# Altium integrated library TI Data Converters Analog to Digital Converter.IntLib: 2198 symbols (part 52 of 164)
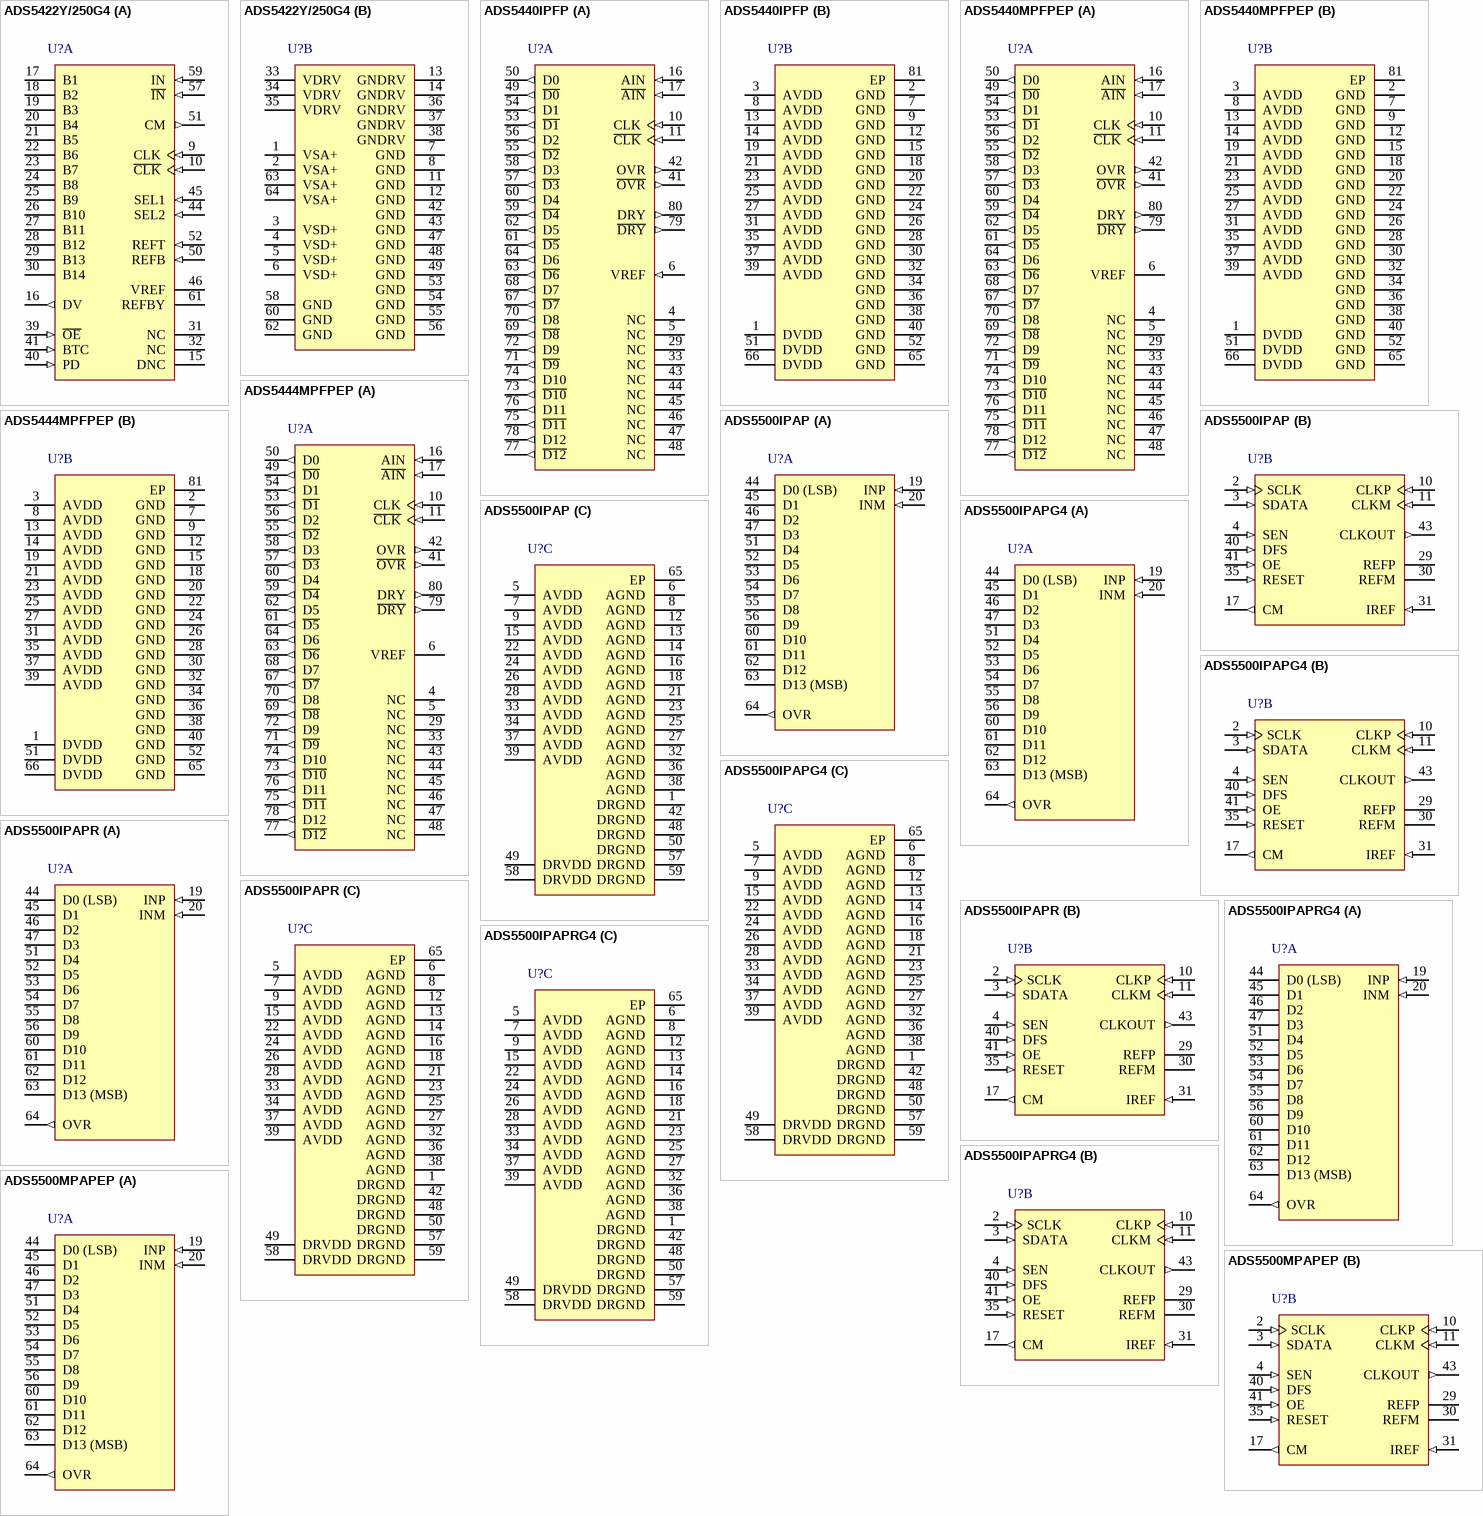
[diagram p177: symbols ADS5422Y/250G4 to ADS5500MPAPEP]

## ADS5440MPFPEP
designator U?
Enhanced Product 13-Bit 210 MSPS ADC, -55 to 125 degC, 80-pin QFP (PFP80), Green (RoHS & no Sb/Br); Manufacturer: Texas Instruments; PartNumber: ADS5440MPFPEP; # Input Channels: 1; Analog Voltage AV/DD(Max)(V): 5.25; Analog Voltage AV/DD(Min)(V): 4.75; Architecture: Pipeline; Digital Supply(Max)(V): 3.6; Digital Supply(Min)(V): 3; ENOB(Bits): 11.4; INL(Max)(+/-LSB): 2.2; Interface: Parallel LVDS; Resolution(Bits): 13; Sample Rate (max)(SPS): 210M; SFDR(dB): 76; SINAD(dB): 68; SNR(dB): 69; SubFamily: High Speed ADC (>10MSPS); DatasheetVersion: SGLS359; PackageVersion: 4146925/C, 07/2011; PackageReference: PFP80-6825X6825TP; PackageDescription: 80-Pin PowerPAD(TM) Plastic Quad Flatpack, Body 12 x 12 mm, Pitch 0.5 mm; Supplier 1: Digi-Key; Supplier Part Number 1: ADS5204IPFBRQ1-ND; Eco-Plan: Green (RoHS & no Sb/Br); Mounting Technology: Surface Mount; Code_JEDEC: MS-026; ComponentLink1Description: Manufacturer URL; ComponentLink1URL: http://www.ti.com/; ComponentLink2Description: Datasheet; ComponentLink2URL: http://www.ti.com/general/docs/lit/getliterature.tsp?genericPartNumber=ADS5440-EP&fileType=pdf; ComponentLink3Description: Package Specification; ComponentLink3URL: http://www.ti.com/litv/pdf/mpqf049b
footprint TI-PFP80-6825X6825TP_N (QFP, 80-Leads, Body 12x12mm, Pitch 0.5mm, Thermal Pad 7.5x7.5mm, IPC Medium Density)
footprint TI-PFP80-6825X6825TP_L (QFP, 80-Leads, Body 12x12mm, Pitch 0.5mm, Thermal Pad 7.5x7.5mm, IPC High Density)
footprint TI-PFP80-6825X6825TP_M (QFP, 80-Leads, Body 12x12mm, Pitch 0.5mm, Thermal Pad 7.5x7.5mm, IPC Low Density)
part A pins: 4 NC "No connect", 5 NC "No connect", 6 VREF "Reference voltage", 10 CLK (in) "Differential input clock (positive). Conversion initiated on rising edge", 11 ~{CLK} (in) "Differential input clock (negative)", 16 AIN (in) "Differential input signal (positive)", 17 ~{AIN} (in) "Differential input signal (negative)", 29 NC "No connect", 33 NC "No connect", 41 ~{OVR} (out) "Over range indicator LVDS output. A logic high signals an analog input in excess of the full-scale range", 42 OVR (out) "Over range indicator LVDS output. A logic high signals an analog input in excess of the full-scale range", 43 NC "No connect", 44 NC "No connect", 45 NC "No connect", 46 NC "No connect", 47 NC "No connect", 48 NC "No connect", 49 ~{D0} (out) "LVDS digital output pair, least-significant bit (LSB)", 50 D0 (out) "LVDS digital output pair, least-significant bit (LSB)", 53 ~{D1} (out) "LVDS digital output pairs", 54 D1 (out) "LVDS digital output pairs", 55 ~{D2} (out) "LVDS digital output pairs", 56 D2 (out) "LVDS digital output pairs", 57 ~{D3} (out) "LVDS digital output pairs", 58 D3 (out) "LVDS digital output pairs", 59 ~{D4} (out) "LVDS digital output pairs", 60 D4 (out) "LVDS digital output pairs", 61 ~{D5} (out) "LVDS digital output pairs", 62 D5 (out) "LVDS digital output pairs", 63 ~{D6} (out) "LVDS digital output pairs", 64 D6 (out) "LVDS digital output pairs", 67 ~{D7} (out) "LVDS digital output pairs", 68 D7 (out) "LVDS digital output pairs", 69 ~{D8} (out) "LVDS digital output pairs", 70 D8 (out) "LVDS digital output pairs", 71 ~{D9} (out) "LVDS digital output pairs", 72 D9 (out) "LVDS digital output pairs", 73 ~{D10} (out) "LVDS digital output pairs", 74 D10 (out) "LVDS digital output pairs", 75 ~{D11} (out) "LVDS digital output pairs", 76 D11 (out) "LVDS digital output pairs", 77 ~{D12} (out) "LVDS digital output pair, most-significant bit (MSB)", 78 D12 (out) "LVDS digital output pair, most-significant bit (MSB)", 79 ~{DRY} (out) "Data ready LVDS output pair", 80 DRY (out) "Data ready LVDS output pair"
part B pins: 1 DVDD (power) "Output driver power supply", 2 GND (power) "Ground", 3 AVDD (power) "Analog power supply", 7 GND (power) "Ground", 8 AVDD (power) "Analog power supply", 9 GND (power) "Ground", 12 GND (power) "Ground", 13 AVDD (power) "Analog power supply", 14 AVDD (power) "Analog power supply", 15 GND (power) "Ground", 18 GND (power) "Ground", 19 AVDD (power) "Analog power supply", 20 GND (power) "Ground", 21 AVDD (power) "Analog power supply", 22 GND (power) "Ground", 23 AVDD (power) "Analog power supply", 24 GND (power) "Ground", 25 AVDD (power) "Analog power supply", 26 GND (power) "Ground", 27 AVDD (power) "Analog power supply", 28 GND (power) "Ground", 30 GND (power) "Ground", 31 AVDD (power) "Analog power supply", 32 GND (power) "Ground", 34 GND (power) "Ground", 35 AVDD (power) "Analog power supply", 36 GND (power) "Ground", 37 AVDD (power) "Analog power supply", 38 GND (power) "Ground", 39 AVDD (power) "Analog power supply", 40 GND (power) "Ground", 51 DVDD (power) "Output driver power supply", 52 GND (power) "Ground", 65 GND (power) "Ground", 66 DVDD (power) "Output driver power supply", 81 EP (power)

## ADS5444MPFPEP
designator U?
Enhanced Product 13-Bit 250 MSPS ADC, -55 to 125 degC, 80-pin QFP (PFP80), Green (RoHS & no Sb/Br); Manufacturer: Texas Instruments; PartNumber: ADS5444MPFPEP; # Input Channels: 1; Analog Voltage AV/DD(Max)(V): 5.25; Analog Voltage AV/DD(Min)(V): 4.75; Architecture: Pipeline; Digital Supply(Max)(V): 3.6; Digital Supply(Min)(V): 3; ENOB(Bits): 11.2; INL(Max)(+/-LSB): 4.3; Interface: Parallel LVDS; Resolution(Bits): 13; Sample Rate (max)(SPS): 250M; SFDR(dB): 77; SINAD(dB): 68; SNR(dB): 69; SubFamily: High Speed ADC (>10MSPS); DatasheetVersion: SGLS360; PackageVersion: 4146925/C, 07/2011; PackageReference: PFP80-6825X6825TP; PackageDescription: 80-Pin PowerPAD(TM) Plastic Quad Flatpack, Body 12 x 12 mm, Pitch 0.5 mm; Supplier 1: Digi-Key; Supplier Part Number 1: ADS8405IBPFBR-ND; Eco-Plan: Green (RoHS & no Sb/Br); Mounting Technology: Surface Mount; Code_JEDEC: MS-026; ComponentLink1Description: Manufacturer URL; ComponentLink1URL: http://www.ti.com/; ComponentLink2Description: Datasheet; ComponentLink2URL: http://www.ti.com/general/docs/lit/getliterature.tsp?genericPartNumber=ADS5444-EP&fileType=pdf; ComponentLink3Description: Package Specification; ComponentLink3URL: http://www.ti.com/litv/pdf/mpqf049b
footprint TI-PFP80-6825X6825TP_N (QFP, 80-Leads, Body 12x12mm, Pitch 0.5mm, Thermal Pad 7.5x7.5mm, IPC Medium Density)
footprint TI-PFP80-6825X6825TP_L (QFP, 80-Leads, Body 12x12mm, Pitch 0.5mm, Thermal Pad 7.5x7.5mm, IPC High Density)
footprint TI-PFP80-6825X6825TP_M (QFP, 80-Leads, Body 12x12mm, Pitch 0.5mm, Thermal Pad 7.5x7.5mm, IPC Low Density)
part A pins: 4 NC "No connect", 5 NC "No connect", 6 VREF "Reference voltage", 10 CLK (in) "Differential input clock (positive). Conversion initiated on rising edge", 11 ~{CLK} (in) "Differential input clock (negative)", 16 AIN (in) "Differential input signal (positive)", 17 ~{AIN} (in) "Differential input signal (negative)", 29 NC "No connect", 33 NC "No connect", 41 ~{OVR} (out) "Over range indicator LVDS output. A logic high signals an analog input in excess of the full-scale range", 42 OVR (out) "Over range indicator LVDS output. A logic high signals an analog input in excess of the full-scale range", 43 NC "No connect", 44 NC "No connect", 45 NC "No connect", 46 NC "No connect", 47 NC "No connect", 48 NC "No connect", 49 ~{D0} (out) "LVDS digital output pair, least-significant bit (LSB)", 50 D0 (out) "LVDS digital output pair, least-significant bit (LSB)", 53 ~{D1} (out) "LVDS digital output pairs", 54 D1 (out) "LVDS digital output pairs", 55 ~{D2} (out) "LVDS digital output pairs", 56 D2 (out) "LVDS digital output pairs", 57 ~{D3} (out) "LVDS digital output pairs", 58 D3 (out) "LVDS digital output pairs", 59 ~{D4} (out) "LVDS digital output pairs", 60 D4 (out) "LVDS digital output pairs", 61 ~{D5} (out) "LVDS digital output pairs", 62 D5 (out) "LVDS digital output pairs", 63 ~{D6} (out) "LVDS digital output pairs", 64 D6 (out) "LVDS digital output pairs", 67 ~{D7} (out) "LVDS digital output pairs", 68 D7 (out) "LVDS digital output pairs", 69 ~{D8} (out) "LVDS digital output pairs", 70 D8 (out) "LVDS digital output pairs", 71 ~{D9} (out) "LVDS digital output pairs", 72 D9 (out) "LVDS digital output pairs", 73 ~{D10} (out) "LVDS digital output pairs", 74 D10 (out) "LVDS digital output pairs", 75 ~{D11} (out) "LVDS digital output pairs", 76 D11 (out) "LVDS digital output pairs", 77 ~{D12} (out) "LVDS digital output pair, most-significant bit (MSB)", 78 D12 (out) "LVDS digital output pair, most-significant bit (MSB)", 79 ~{DRY} (out) "Data ready LVDS output pair", 80 DRY (out) "Data ready LVDS output pair"
part B pins: 1 DVDD (power) "Output driver power supply", 2 GND (power) "Ground", 3 AVDD (power) "Analog power supply", 7 GND (power) "Ground", 8 AVDD (power) "Analog power supply", 9 GND (power) "Ground", 12 GND (power) "Ground", 13 AVDD (power) "Analog power supply", 14 AVDD (power) "Analog power supply", 15 GND (power) "Ground", 18 GND (power) "Ground", 19 AVDD (power) "Analog power supply", 20 GND (power) "Ground", 21 AVDD (power) "Analog power supply", 22 GND (power) "Ground", 23 AVDD (power) "Analog power supply", 24 GND (power) "Ground", 25 AVDD (power) "Analog power supply", 26 GND (power) "Ground", 27 AVDD (power) "Analog power supply", 28 GND (power) "Ground", 30 GND (power) "Ground", 31 AVDD (power) "Analog power supply", 32 GND (power) "Ground", 34 GND (power) "Ground", 35 AVDD (power) "Analog power supply", 36 GND (power) "Ground", 37 AVDD (power) "Analog power supply", 38 GND (power) "Ground", 39 AVDD (power) "Analog power supply", 40 GND (power) "Ground", 51 DVDD (power) "Output driver power supply", 52 GND (power) "Ground", 65 GND (power) "Ground", 66 DVDD (power) "Output driver power supply", 81 EP (power)

## ADS5500IPAP
designator U?
14-Bit, 125 MSPS ADC Single Channel Low Power and Superior AC Performance, -40 to 85 degC, 64-pin QFP (PAP64), Green (RoHS & no Sb/Br); Manufacturer: Texas Instruments; PartNumber: ADS5500IPAP; # Input Channels: 1; Analog Voltage AV/DD(Max)(V): 3.6; Analog Voltage AV/DD(Min)(V): 3; Architecture: Pipeline; ENOB(Bits): 11.3; INL(Max)(+/-LSB): 5; Interface: Parallel CMOS,Serial SPI Interface; Resolution(Bits): 14; Sample Rate (max)(SPS): 125M; SFDR(dB): 84; SINAD(dB): 72.8; SNR(dB): 73.2; SubFamily: High Speed ADC (>10MSPS); DatasheetVersion: SBAS303F; PackageVersion: 4147702/C, 08/2003; PackageReference: PAP64-3825X3825TP; PackageDescription: 64-Pin PowerPAD(TM) Plastic Quad Flatpack, Body 10 x 10 mm, Pitch 0.5 mm; Supplier 1: Digi-Key; Supplier Part Number 1: ADS8405IBPFBRG4-ND; Digital Supply(Max)(V): 3.6; Digital Supply(Min)(V): 3; Eco-Plan: Green (RoHS & no Sb/Br); Mounting Technology: Surface Mount; Code_JEDEC: MS-026; ComponentLink1Description: Manufacturer URL; ComponentLink1URL: http://www.ti.com/; ComponentLink2Description: Datasheet; ComponentLink2URL: http://www.ti.com/general/docs/lit/getliterature.tsp?genericPartNumber=ADS5500&fileType=pdf; ComponentLink3Description: Package Specification; ComponentLink3URL: http://www.ti.com/lit/ml/mpqf071b/mpqf071b.pdf
footprint TI-PAP64-3825X3825TP_N (QFP, 64-Leads, Body 10x10mm, Pitch 0.5mm, Thermal Pad 4.15x4.15 mm, IPC Medium Density)
footprint TI-PAP64-3825X3825TP_L (QFP, 64-Leads, Body 10x10mm, Pitch 0.5mm, Thermal Pad 4.15x4.15mm, IPC High Density)
footprint TI-PAP64-3825X3825TP_M (QFP, 64-Leads, Body 10x10mm, Pitch 0.5mm, Thermal Pad 4.15x4.15mm, IPC Low Density)
part A pins: 19 INP (in) "Differential analog input (positive)", 20 INM (in) "Differential analog input (negative)", 44 D0 (LSB) (hiz) "Parallel data output", 45 D1 (hiz) "Parallel data output", 46 D2 (hiz) "Parallel data output", 47 D3 (hiz) "Parallel data output", 51 D4 (hiz) "Parallel data output", 52 D5 (hiz) "Parallel data output", 53 D6 (hiz) "Parallel data output", 54 D7 (hiz) "Parallel data output", 55 D8 (hiz) "Parallel data output", 56 D9 (hiz) "Parallel data output", 60 D10 (hiz) "Parallel data output", 61 D11 (hiz) "Parallel data output", 62 D12 (hiz) "Parallel data output", 63 D13 (MSB) (hiz) "Parallel data output", 64 OVR (out) "Over-range indicator bit"
part B pins: 2 SCLK (in) "Serial interface clock", 3 SDATA (in) "Serial interface data", 4 SEN (in) "Serial interface chip select", 10 CLKP (in) "Data converter differential input clock (positive)", 11 CLKM (in) "Data converter differential input clock (negative)", 17 CM (out) "Common-mode output voltage", 29 REFP "Reference voltage (positive); 1-uF capacitor in series with a 1-ohm resistor to GND", 30 REFM "Reference voltage (negative); 1-uF capacitor in series with a 1-ohm resistor to GND", 31 IREF (in) "Current set; 56-kohm resistor to GND; do not connect capacitors", 35 RESET (in) "Reset (active high), 200-kohm resistor to AVDD", 40 DFS (in) "Data format and clock out polarity select", 41 OE (in) "Output enable (active high)", 43 CLKOUT (out) "CMOS clock out in sync with data"
part C pins: 1 DRGND (power) "Output driver ground", 5 AVDD (power) "Analog power supply", 6 AGND (power) "Analog ground", 7 AVDD (power) "Analog power supply", 8 AGND (power) "Analog ground", 9 AVDD (power) "Analog power supply", 12 AGND (power) "Analog ground", 13 AGND (power) "Analog ground", 14 AGND (power) "Analog ground", 15 AVDD (power) "Analog power supply", 16 AGND (power) "Analog ground", 18 AGND (power) "Analog ground", 21 AGND (power) "Analog ground", 22 AVDD (power) "Analog power supply", 23 AGND (power) "Analog ground", 24 AVDD (power) "Analog power supply", 25 AGND (power) "Analog ground", 26 AVDD (power) "Analog power supply", 27 AGND (power) "Analog ground", 28 AVDD (power) "Analog power supply", 32 AGND (power) "Analog ground", 33 AVDD (power) "Analog power supply", 34 AVDD (power) "Analog power supply", 36 AGND (power) "Analog ground", 37 AVDD (power) "Analog power supply", 38 AGND (power) "Analog ground", 39 AVDD (power) "Analog power supply", 42 DRGND (power) "Output driver ground", 48 DRGND (power) "Output driver ground", 49 DRVDD (power) "Output driver power supply", 50 DRGND (power) "Output driver ground", 57 DRGND (power) "Output driver ground", 58 DRVDD (power) "Output driver power supply", 59 DRGND (power) "Output driver ground", 65 EP (power) "Connected to Analog Ground"

## ADS5500IPAPG4
designator U?
14-Bit, 125 MSPS ADC Single Channel Low Power and Superior AC Performance, -40 to 85 degC, 64-pin QFP (PAP64), Green (RoHS & no Sb/Br); Manufacturer: Texas Instruments; PartNumber: ADS5500IPAPG4; # Input Channels: 1; Analog Voltage AV/DD(Max)(V): 3.6; Analog Voltage AV/DD(Min)(V): 3; Architecture: Pipeline; ENOB(Bits): 11.3; INL(Max)(+/-LSB): 5; Interface: Parallel CMOS,Serial SPI Interface; Resolution(Bits): 14; Sample Rate (max)(SPS): 125M; SFDR(dB): 84; SINAD(dB): 72.8; SNR(dB): 73.2; SubFamily: High Speed ADC (>10MSPS); DatasheetVersion: SBAS303F; PackageVersion: 4147702/C, 08/2003; PackageReference: PAP64-3825X3825TP; PackageDescription: 64-Pin PowerPAD(TM) Plastic Quad Flatpack, Body 10 x 10 mm, Pitch 0.5 mm; Supplier 1: Digi-Key; Supplier Part Number 1: 296-17636-2-ND; Digital Supply(Max)(V): 3.6; Digital Supply(Min)(V): 3; Eco-Plan: Green (RoHS & no Sb/Br); Mounting Technology: Surface Mount; Code_JEDEC: MS-026; ComponentLink1Description: Manufacturer URL; ComponentLink1URL: http://www.ti.com/; ComponentLink2Description: Datasheet; ComponentLink2URL: http://www.ti.com/general/docs/lit/getliterature.tsp?genericPartNumber=ADS5500&fileType=pdf; ComponentLink3Description: Package Specification; ComponentLink3URL: http://www.ti.com/lit/ml/mpqf071b/mpqf071b.pdf
footprint TI-PAP64-3825X3825TP_N (QFP, 64-Leads, Body 10x10mm, Pitch 0.5mm, Thermal Pad 4.15x4.15 mm, IPC Medium Density)
footprint TI-PAP64-3825X3825TP_L (QFP, 64-Leads, Body 10x10mm, Pitch 0.5mm, Thermal Pad 4.15x4.15mm, IPC High Density)
footprint TI-PAP64-3825X3825TP_M (QFP, 64-Leads, Body 10x10mm, Pitch 0.5mm, Thermal Pad 4.15x4.15mm, IPC Low Density)
part A pins: 19 INP (in) "Differential analog input (positive)", 20 INM (in) "Differential analog input (negative)", 44 D0 (LSB) (hiz) "Parallel data output", 45 D1 (hiz) "Parallel data output", 46 D2 (hiz) "Parallel data output", 47 D3 (hiz) "Parallel data output", 51 D4 (hiz) "Parallel data output", 52 D5 (hiz) "Parallel data output", 53 D6 (hiz) "Parallel data output", 54 D7 (hiz) "Parallel data output", 55 D8 (hiz) "Parallel data output", 56 D9 (hiz) "Parallel data output", 60 D10 (hiz) "Parallel data output", 61 D11 (hiz) "Parallel data output", 62 D12 (hiz) "Parallel data output", 63 D13 (MSB) (hiz) "Parallel data output", 64 OVR (out) "Over-range indicator bit"
part B pins: 2 SCLK (in) "Serial interface clock", 3 SDATA (in) "Serial interface data", 4 SEN (in) "Serial interface chip select", 10 CLKP (in) "Data converter differential input clock (positive)", 11 CLKM (in) "Data converter differential input clock (negative)", 17 CM (out) "Common-mode output voltage", 29 REFP "Reference voltage (positive); 1-uF capacitor in series with a 1-ohm resistor to GND", 30 REFM "Reference voltage (negative); 1-uF capacitor in series with a 1-ohm resistor to GND", 31 IREF (in) "Current set; 56-kohm resistor to GND; do not connect capacitors", 35 RESET (in) "Reset (active high), 200-kohm resistor to AVDD", 40 DFS (in) "Data format and clock out polarity select", 41 OE (in) "Output enable (active high)", 43 CLKOUT (out) "CMOS clock out in sync with data"
part C pins: 1 DRGND (power) "Output driver ground", 5 AVDD (power) "Analog power supply", 6 AGND (power) "Analog ground", 7 AVDD (power) "Analog power supply", 8 AGND (power) "Analog ground", 9 AVDD (power) "Analog power supply", 12 AGND (power) "Analog ground", 13 AGND (power) "Analog ground", 14 AGND (power) "Analog ground", 15 AVDD (power) "Analog power supply", 16 AGND (power) "Analog ground", 18 AGND (power) "Analog ground", 21 AGND (power) "Analog ground", 22 AVDD (power) "Analog power supply", 23 AGND (power) "Analog ground", 24 AVDD (power) "Analog power supply", 25 AGND (power) "Analog ground", 26 AVDD (power) "Analog power supply", 27 AGND (power) "Analog ground", 28 AVDD (power) "Analog power supply", 32 AGND (power) "Analog ground", 33 AVDD (power) "Analog power supply", 34 AVDD (power) "Analog power supply", 36 AGND (power) "Analog ground", 37 AVDD (power) "Analog power supply", 38 AGND (power) "Analog ground", 39 AVDD (power) "Analog power supply", 42 DRGND (power) "Output driver ground", 48 DRGND (power) "Output driver ground", 49 DRVDD (power) "Output driver power supply", 50 DRGND (power) "Output driver ground", 57 DRGND (power) "Output driver ground", 58 DRVDD (power) "Output driver power supply", 59 DRGND (power) "Output driver ground", 65 EP (power) "Connected to Analog Ground"

## ADS5500IPAPR
designator U?
14-Bit, 125 MSPS ADC Single Channel Low Power and Superior AC Performance, -40 to 85 degC, 64-pin QFP (PAP64), Green (RoHS & no Sb/Br); Manufacturer: Texas Instruments; PartNumber: ADS5500IPAPR; # Input Channels: 1; Analog Voltage AV/DD(Max)(V): 3.6; Analog Voltage AV/DD(Min)(V): 3; Architecture: Pipeline; ENOB(Bits): 11.3; INL(Max)(+/-LSB): 5; Interface: Parallel CMOS,Serial SPI Interface; Resolution(Bits): 14; Sample Rate (max)(SPS): 125M; SFDR(dB): 84; SINAD(dB): 72.8; SNR(dB): 73.2; SubFamily: High Speed ADC (>10MSPS); DatasheetVersion: SBAS303F; PackageVersion: 4147702/C, 08/2003; PackageReference: PAP64-3825X3825TP; PackageDescription: 64-Pin PowerPAD(TM) Plastic Quad Flatpack, Body 10 x 10 mm, Pitch 0.5 mm; Supplier 1: Digi-Key; Supplier Part Number 1: ADS8405IBPFBTG4-ND; Digital Supply(Max)(V): 3.6; Digital Supply(Min)(V): 3; Eco-Plan: Green (RoHS & no Sb/Br); Mounting Technology: Surface Mount; Code_JEDEC: MS-026; ComponentLink1Description: Manufacturer URL; ComponentLink1URL: http://www.ti.com/; ComponentLink2Description: Datasheet; ComponentLink2URL: http://www.ti.com/general/docs/lit/getliterature.tsp?genericPartNumber=ADS5500&fileType=pdf; ComponentLink3Description: Package Specification; ComponentLink3URL: http://www.ti.com/lit/ml/mpqf071b/mpqf071b.pdf
footprint TI-PAP64-3825X3825TP_N (QFP, 64-Leads, Body 10x10mm, Pitch 0.5mm, Thermal Pad 4.15x4.15 mm, IPC Medium Density)
footprint TI-PAP64-3825X3825TP_L (QFP, 64-Leads, Body 10x10mm, Pitch 0.5mm, Thermal Pad 4.15x4.15mm, IPC High Density)
footprint TI-PAP64-3825X3825TP_M (QFP, 64-Leads, Body 10x10mm, Pitch 0.5mm, Thermal Pad 4.15x4.15mm, IPC Low Density)
part A pins: 19 INP (in) "Differential analog input (positive)", 20 INM (in) "Differential analog input (negative)", 44 D0 (LSB) (hiz) "Parallel data output", 45 D1 (hiz) "Parallel data output", 46 D2 (hiz) "Parallel data output", 47 D3 (hiz) "Parallel data output", 51 D4 (hiz) "Parallel data output", 52 D5 (hiz) "Parallel data output", 53 D6 (hiz) "Parallel data output", 54 D7 (hiz) "Parallel data output", 55 D8 (hiz) "Parallel data output", 56 D9 (hiz) "Parallel data output", 60 D10 (hiz) "Parallel data output", 61 D11 (hiz) "Parallel data output", 62 D12 (hiz) "Parallel data output", 63 D13 (MSB) (hiz) "Parallel data output", 64 OVR (out) "Over-range indicator bit"
part B pins: 2 SCLK (in) "Serial interface clock", 3 SDATA (in) "Serial interface data", 4 SEN (in) "Serial interface chip select", 10 CLKP (in) "Data converter differential input clock (positive)", 11 CLKM (in) "Data converter differential input clock (negative)", 17 CM (out) "Common-mode output voltage", 29 REFP "Reference voltage (positive); 1-uF capacitor in series with a 1-ohm resistor to GND", 30 REFM "Reference voltage (negative); 1-uF capacitor in series with a 1-ohm resistor to GND", 31 IREF (in) "Current set; 56-kohm resistor to GND; do not connect capacitors", 35 RESET (in) "Reset (active high), 200-kohm resistor to AVDD", 40 DFS (in) "Data format and clock out polarity select", 41 OE (in) "Output enable (active high)", 43 CLKOUT (out) "CMOS clock out in sync with data"
part C pins: 1 DRGND (power) "Output driver ground", 5 AVDD (power) "Analog power supply", 6 AGND (power) "Analog ground", 7 AVDD (power) "Analog power supply", 8 AGND (power) "Analog ground", 9 AVDD (power) "Analog power supply", 12 AGND (power) "Analog ground", 13 AGND (power) "Analog ground", 14 AGND (power) "Analog ground", 15 AVDD (power) "Analog power supply", 16 AGND (power) "Analog ground", 18 AGND (power) "Analog ground", 21 AGND (power) "Analog ground", 22 AVDD (power) "Analog power supply", 23 AGND (power) "Analog ground", 24 AVDD (power) "Analog power supply", 25 AGND (power) "Analog ground", 26 AVDD (power) "Analog power supply", 27 AGND (power) "Analog ground", 28 AVDD (power) "Analog power supply", 32 AGND (power) "Analog ground", 33 AVDD (power) "Analog power supply", 34 AVDD (power) "Analog power supply", 36 AGND (power) "Analog ground", 37 AVDD (power) "Analog power supply", 38 AGND (power) "Analog ground", 39 AVDD (power) "Analog power supply", 42 DRGND (power) "Output driver ground", 48 DRGND (power) "Output driver ground", 49 DRVDD (power) "Output driver power supply", 50 DRGND (power) "Output driver ground", 57 DRGND (power) "Output driver ground", 58 DRVDD (power) "Output driver power supply", 59 DRGND (power) "Output driver ground", 65 EP (power) "Connected to Analog Ground"

## ADS5500IPAPRG4
designator U?
14-Bit, 125 MSPS ADC Single Channel Low Power and Superior AC Performance, -40 to 85 degC, 64-pin QFP (PAP64), Green (RoHS & no Sb/Br); Manufacturer: Texas Instruments; PartNumber: ADS5500IPAPRG4; # Input Channels: 1; Analog Voltage AV/DD(Max)(V): 3.6; Analog Voltage AV/DD(Min)(V): 3; Architecture: Pipeline; ENOB(Bits): 11.3; INL(Max)(+/-LSB): 5; Interface: Parallel CMOS,Serial SPI Interface; Resolution(Bits): 14; Sample Rate (max)(SPS): 125M; SFDR(dB): 84; SINAD(dB): 72.8; SNR(dB): 73.2; SubFamily: High Speed ADC (>10MSPS); DatasheetVersion: SBAS303F; PackageVersion: 4147702/C, 08/2003; PackageReference: PAP64-3825X3825TP; PackageDescription: 64-Pin PowerPAD(TM) Plastic Quad Flatpack, Body 10 x 10 mm, Pitch 0.5 mm; Supplier 1: Digi-Key; Supplier Part Number 1: ADS8405IPFBR-ND; Digital Supply(Max)(V): 3.6; Digital Supply(Min)(V): 3; Eco-Plan: Green (RoHS & no Sb/Br); Mounting Technology: Surface Mount; Code_JEDEC: MS-026; ComponentLink1Description: Manufacturer URL; ComponentLink1URL: http://www.ti.com/; ComponentLink2Description: Datasheet; ComponentLink2URL: http://www.ti.com/general/docs/lit/getliterature.tsp?genericPartNumber=ADS5500&fileType=pdf; ComponentLink3Description: Package Specification; ComponentLink3URL: http://www.ti.com/lit/ml/mpqf071b/mpqf071b.pdf
footprint TI-PAP64-3825X3825TP_N (QFP, 64-Leads, Body 10x10mm, Pitch 0.5mm, Thermal Pad 4.15x4.15 mm, IPC Medium Density)
footprint TI-PAP64-3825X3825TP_L (QFP, 64-Leads, Body 10x10mm, Pitch 0.5mm, Thermal Pad 4.15x4.15mm, IPC High Density)
footprint TI-PAP64-3825X3825TP_M (QFP, 64-Leads, Body 10x10mm, Pitch 0.5mm, Thermal Pad 4.15x4.15mm, IPC Low Density)
part A pins: 19 INP (in) "Differential analog input (positive)", 20 INM (in) "Differential analog input (negative)", 44 D0 (LSB) (hiz) "Parallel data output", 45 D1 (hiz) "Parallel data output", 46 D2 (hiz) "Parallel data output", 47 D3 (hiz) "Parallel data output", 51 D4 (hiz) "Parallel data output", 52 D5 (hiz) "Parallel data output", 53 D6 (hiz) "Parallel data output", 54 D7 (hiz) "Parallel data output", 55 D8 (hiz) "Parallel data output", 56 D9 (hiz) "Parallel data output", 60 D10 (hiz) "Parallel data output", 61 D11 (hiz) "Parallel data output", 62 D12 (hiz) "Parallel data output", 63 D13 (MSB) (hiz) "Parallel data output", 64 OVR (out) "Over-range indicator bit"
part B pins: 2 SCLK (in) "Serial interface clock", 3 SDATA (in) "Serial interface data", 4 SEN (in) "Serial interface chip select", 10 CLKP (in) "Data converter differential input clock (positive)", 11 CLKM (in) "Data converter differential input clock (negative)", 17 CM (out) "Common-mode output voltage", 29 REFP "Reference voltage (positive); 1-uF capacitor in series with a 1-ohm resistor to GND", 30 REFM "Reference voltage (negative); 1-uF capacitor in series with a 1-ohm resistor to GND", 31 IREF (in) "Current set; 56-kohm resistor to GND; do not connect capacitors", 35 RESET (in) "Reset (active high), 200-kohm resistor to AVDD", 40 DFS (in) "Data format and clock out polarity select", 41 OE (in) "Output enable (active high)", 43 CLKOUT (out) "CMOS clock out in sync with data"
part C pins: 1 DRGND (power) "Output driver ground", 5 AVDD (power) "Analog power supply", 6 AGND (power) "Analog ground", 7 AVDD (power) "Analog power supply", 8 AGND (power) "Analog ground", 9 AVDD (power) "Analog power supply", 12 AGND (power) "Analog ground", 13 AGND (power) "Analog ground", 14 AGND (power) "Analog ground", 15 AVDD (power) "Analog power supply", 16 AGND (power) "Analog ground", 18 AGND (power) "Analog ground", 21 AGND (power) "Analog ground", 22 AVDD (power) "Analog power supply", 23 AGND (power) "Analog ground", 24 AVDD (power) "Analog power supply", 25 AGND (power) "Analog ground", 26 AVDD (power) "Analog power supply", 27 AGND (power) "Analog ground", 28 AVDD (power) "Analog power supply", 32 AGND (power) "Analog ground", 33 AVDD (power) "Analog power supply", 34 AVDD (power) "Analog power supply", 36 AGND (power) "Analog ground", 37 AVDD (power) "Analog power supply", 38 AGND (power) "Analog ground", 39 AVDD (power) "Analog power supply", 42 DRGND (power) "Output driver ground", 48 DRGND (power) "Output driver ground", 49 DRVDD (power) "Output driver power supply", 50 DRGND (power) "Output driver ground", 57 DRGND (power) "Output driver ground", 58 DRVDD (power) "Output driver power supply", 59 DRGND (power) "Output driver ground", 65 EP (power) "Connected to Analog Ground"

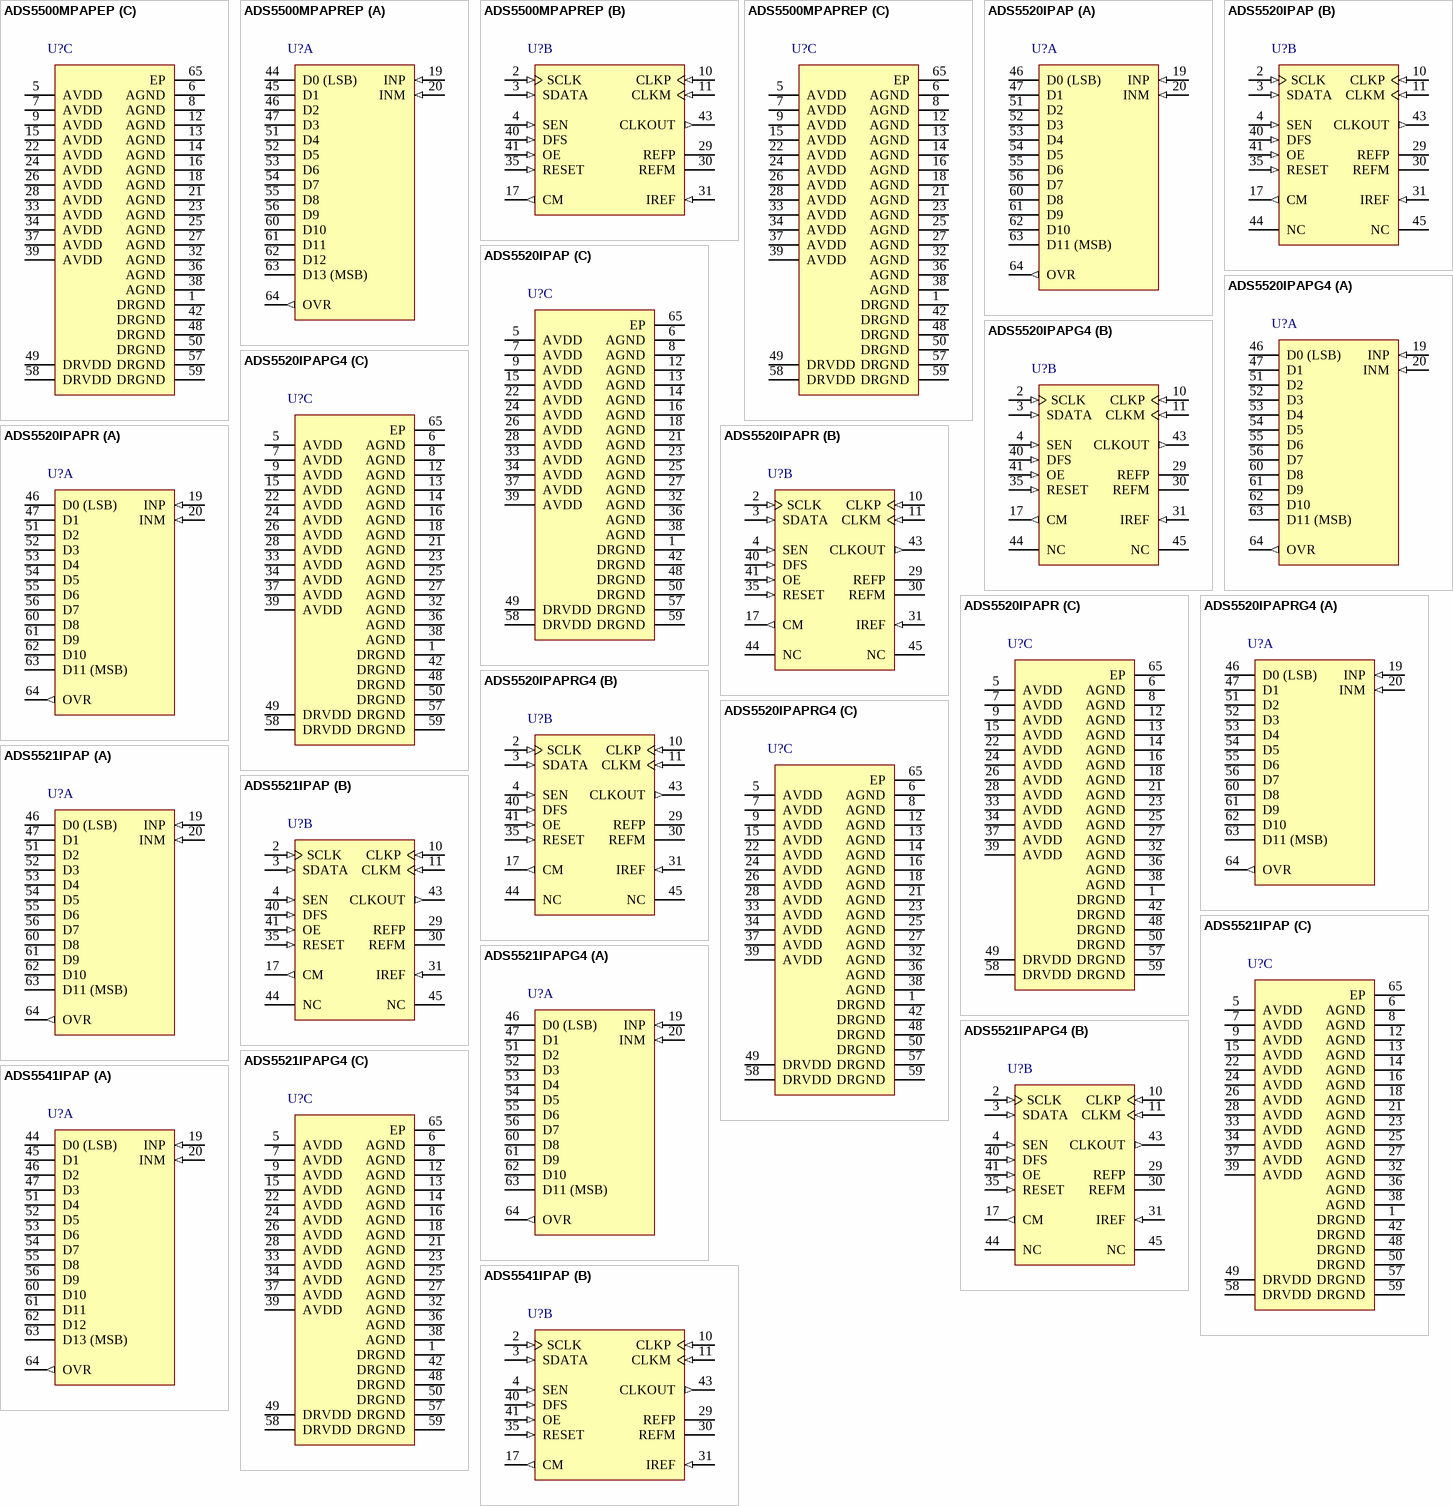
[diagram p52: symbols ADS5500MPAPEP to ADS5541IPAP]

## ADS5500MPAPEP
designator U?
Enhanced Product 14-Bit 125 MSPS ADC, -55 to 125 degC, 64-pin QFP (PAP64), Green (RoHS & no Sb/Br); Manufacturer: Texas Instruments; PartNumber: ADS5500MPAPEP; # Input Channels: 1; Analog Voltage AV/DD(Max)(V): 3.6; Analog Voltage AV/DD(Min)(V): 3; Architecture: Pipeline; ENOB(Bits): 11.3; INL(Max)(+/-LSB): 8; Interface: Parallel CMOS,Serial SPI Interface; Resolution(Bits): 14; Sample Rate (max)(SPS): 125M; SFDR(dB): 84; SINAD(dB): 70; SNR(dB): 71.5; SubFamily: High Speed ADC (>10MSPS); DatasheetVersion: SGLS286C; PackageVersion: 4147702/C, 08/2003; PackageReference: PAP64-3825X3825TP; PackageDescription: 64-Pin PowerPAD(TM) Plastic Quad Flatpack, Body 10 x 10 mm, Pitch 0.5 mm; Supplier 1: Digi-Key; Supplier Part Number 1: ADS8405IPFBRG4-ND; Digital Supply(Max)(V): 3.6; Digital Supply(Min)(V): 3; Eco-Plan: Green (RoHS & no Sb/Br); Mounting Technology: Surface Mount; Code_JEDEC: MS-026; ComponentLink1Description: Manufacturer URL; ComponentLink1URL: http://www.ti.com/; ComponentLink2Description: Datasheet; ComponentLink2URL: http://www.ti.com/general/docs/lit/getliterature.tsp?genericPartNumber=ADS5500-EP&fileType=pdf; ComponentLink3Description: Package Specification; ComponentLink3URL: http://www.ti.com/lit/ml/mpqf071b/mpqf071b.pdf
footprint TI-PAP64-3825X3825TP_N (QFP, 64-Leads, Body 10x10mm, Pitch 0.5mm, Thermal Pad 4.15x4.15 mm, IPC Medium Density)
footprint TI-PAP64-3825X3825TP_L (QFP, 64-Leads, Body 10x10mm, Pitch 0.5mm, Thermal Pad 4.15x4.15mm, IPC High Density)
footprint TI-PAP64-3825X3825TP_M (QFP, 64-Leads, Body 10x10mm, Pitch 0.5mm, Thermal Pad 4.15x4.15mm, IPC Low Density)
part A pins: 19 INP (in) "Differential analog input (positive)", 20 INM (in) "Differential analog input (negative)", 44 D0 (LSB) (hiz) "Parallel data output", 45 D1 (hiz) "Parallel data output", 46 D2 (hiz) "Parallel data output", 47 D3 (hiz) "Parallel data output", 51 D4 (hiz) "Parallel data output", 52 D5 (hiz) "Parallel data output", 53 D6 (hiz) "Parallel data output", 54 D7 (hiz) "Parallel data output", 55 D8 (hiz) "Parallel data output", 56 D9 (hiz) "Parallel data output", 60 D10 (hiz) "Parallel data output", 61 D11 (hiz) "Parallel data output", 62 D12 (hiz) "Parallel data output", 63 D13 (MSB) (hiz) "Parallel data output", 64 OVR (out) "Over-range indicator bit"
part B pins: 2 SCLK (in) "Serial interface clock", 3 SDATA (in) "Serial interface data", 4 SEN (in) "Serial interface chip select", 10 CLKP (in) "Data converter differential input clock (positive)", 11 CLKM (in) "Data converter differential input clock (negative)", 17 CM (out) "Common-mode output voltage", 29 REFP "Reference voltage (positive); 1-uF capacitor in series with a 1-ohm resistor to GND", 30 REFM "Reference voltage (negative); 1-uF capacitor in series with a 1-ohm resistor to GND", 31 IREF (in) "Current set; 56-kohm resistor to GND; do not connect capacitors", 35 RESET (in) "Reset (active high), 200-kohm resistor to AVDD", 40 DFS (in) "Data format and clock out polarity select", 41 OE (in) "Output enable (active high)", 43 CLKOUT (out) "CMOS clock out in sync with data"
part C pins: 1 DRGND (power) "Output driver ground", 5 AVDD (power) "Analog power supply", 6 AGND (power) "Analog ground", 7 AVDD (power) "Analog power supply", 8 AGND (power) "Analog ground", 9 AVDD (power) "Analog power supply", 12 AGND (power) "Analog ground", 13 AGND (power) "Analog ground", 14 AGND (power) "Analog ground", 15 AVDD (power) "Analog power supply", 16 AGND (power) "Analog ground", 18 AGND (power) "Analog ground", 21 AGND (power) "Analog ground", 22 AVDD (power) "Analog power supply", 23 AGND (power) "Analog ground", 24 AVDD (power) "Analog power supply", 25 AGND (power) "Analog ground", 26 AVDD (power) "Analog power supply", 27 AGND (power) "Analog ground", 28 AVDD (power) "Analog power supply", 32 AGND (power) "Analog ground", 33 AVDD (power) "Analog power supply", 34 AVDD (power) "Analog power supply", 36 AGND (power) "Analog ground", 37 AVDD (power) "Analog power supply", 38 AGND (power) "Analog ground", 39 AVDD (power) "Analog power supply", 42 DRGND (power) "Output driver ground", 48 DRGND (power) "Output driver ground", 49 DRVDD (power) "Output driver power supply", 50 DRGND (power) "Output driver ground", 57 DRGND (power) "Output driver ground", 58 DRVDD (power) "Output driver power supply", 59 DRGND (power) "Output driver ground", 65 EP (power) "Connected to Analog Ground"

## ADS5500MPAPREP
designator U?
Enhanced Product 14-Bit 125 MSPS ADC, -55 to 125 degC, 64-pin QFP (PAP64), Green (RoHS & no Sb/Br); Manufacturer: Texas Instruments; PartNumber: ADS5500MPAPREP; # Input Channels: 1; Analog Voltage AV/DD(Max)(V): 3.6; Analog Voltage AV/DD(Min)(V): 3; Architecture: Pipeline; ENOB(Bits): 11.3; INL(Max)(+/-LSB): 8; Interface: Parallel CMOS,Serial SPI Interface; Resolution(Bits): 14; Sample Rate (max)(SPS): 125M; SFDR(dB): 84; SINAD(dB): 70; SNR(dB): 71.5; SubFamily: High Speed ADC (>10MSPS); DatasheetVersion: SGLS286C; PackageVersion: 4147702/C, 08/2003; PackageReference: PAP64-3825X3825TP; PackageDescription: 64-Pin PowerPAD(TM) Plastic Quad Flatpack, Body 10 x 10 mm, Pitch 0.5 mm; Supplier 1: Digi-Key; Supplier Part Number 1: 296-17637-2-ND; Digital Supply(Max)(V): 3.6; Digital Supply(Min)(V): 3; Eco-Plan: Green (RoHS & no Sb/Br); Mounting Technology: Surface Mount; Code_JEDEC: MS-026; ComponentLink1Description: Manufacturer URL; ComponentLink1URL: http://www.ti.com/; ComponentLink2Description: Datasheet; ComponentLink2URL: http://www.ti.com/general/docs/lit/getliterature.tsp?genericPartNumber=ADS5500-EP&fileType=pdf; ComponentLink3Description: Package Specification; ComponentLink3URL: http://www.ti.com/lit/ml/mpqf071b/mpqf071b.pdf
footprint TI-PAP64-3825X3825TP_N (QFP, 64-Leads, Body 10x10mm, Pitch 0.5mm, Thermal Pad 4.15x4.15 mm, IPC Medium Density)
footprint TI-PAP64-3825X3825TP_L (QFP, 64-Leads, Body 10x10mm, Pitch 0.5mm, Thermal Pad 4.15x4.15mm, IPC High Density)
footprint TI-PAP64-3825X3825TP_M (QFP, 64-Leads, Body 10x10mm, Pitch 0.5mm, Thermal Pad 4.15x4.15mm, IPC Low Density)
part A pins: 19 INP (in) "Differential analog input (positive)", 20 INM (in) "Differential analog input (negative)", 44 D0 (LSB) (hiz) "Parallel data output", 45 D1 (hiz) "Parallel data output", 46 D2 (hiz) "Parallel data output", 47 D3 (hiz) "Parallel data output", 51 D4 (hiz) "Parallel data output", 52 D5 (hiz) "Parallel data output", 53 D6 (hiz) "Parallel data output", 54 D7 (hiz) "Parallel data output", 55 D8 (hiz) "Parallel data output", 56 D9 (hiz) "Parallel data output", 60 D10 (hiz) "Parallel data output", 61 D11 (hiz) "Parallel data output", 62 D12 (hiz) "Parallel data output", 63 D13 (MSB) (hiz) "Parallel data output", 64 OVR (out) "Over-range indicator bit"
part B pins: 2 SCLK (in) "Serial interface clock", 3 SDATA (in) "Serial interface data", 4 SEN (in) "Serial interface chip select", 10 CLKP (in) "Data converter differential input clock (positive)", 11 CLKM (in) "Data converter differential input clock (negative)", 17 CM (out) "Common-mode output voltage", 29 REFP "Reference voltage (positive); 1-uF capacitor in series with a 1-ohm resistor to GND", 30 REFM "Reference voltage (negative); 1-uF capacitor in series with a 1-ohm resistor to GND", 31 IREF (in) "Current set; 56-kohm resistor to GND; do not connect capacitors", 35 RESET (in) "Reset (active high), 200-kohm resistor to AVDD", 40 DFS (in) "Data format and clock out polarity select", 41 OE (in) "Output enable (active high)", 43 CLKOUT (out) "CMOS clock out in sync with data"
part C pins: 1 DRGND (power) "Output driver ground", 5 AVDD (power) "Analog power supply", 6 AGND (power) "Analog ground", 7 AVDD (power) "Analog power supply", 8 AGND (power) "Analog ground", 9 AVDD (power) "Analog power supply", 12 AGND (power) "Analog ground", 13 AGND (power) "Analog ground", 14 AGND (power) "Analog ground", 15 AVDD (power) "Analog power supply", 16 AGND (power) "Analog ground", 18 AGND (power) "Analog ground", 21 AGND (power) "Analog ground", 22 AVDD (power) "Analog power supply", 23 AGND (power) "Analog ground", 24 AVDD (power) "Analog power supply", 25 AGND (power) "Analog ground", 26 AVDD (power) "Analog power supply", 27 AGND (power) "Analog ground", 28 AVDD (power) "Analog power supply", 32 AGND (power) "Analog ground", 33 AVDD (power) "Analog power supply", 34 AVDD (power) "Analog power supply", 36 AGND (power) "Analog ground", 37 AVDD (power) "Analog power supply", 38 AGND (power) "Analog ground", 39 AVDD (power) "Analog power supply", 42 DRGND (power) "Output driver ground", 48 DRGND (power) "Output driver ground", 49 DRVDD (power) "Output driver power supply", 50 DRGND (power) "Output driver ground", 57 DRGND (power) "Output driver ground", 58 DRVDD (power) "Output driver power supply", 59 DRGND (power) "Output driver ground", 65 EP (power) "Connected to Analog Ground"

## ADS5520IPAP
designator U?
12-Bit, 125 MSPS ADC, -40 to 85 degC, 64-pin QFP (PAP64), Green (RoHS & no Sb/Br); Manufacturer: Texas Instruments; PartNumber: ADS5520IPAP; # Input Channels: 1; Analog Voltage AV/DD(Max)(V): 3.6; Analog Voltage AV/DD(Min)(V): 3; Architecture: Pipeline; ENOB(Bits): 11.3; INL(Max)(+/-LSB): 1.5; Interface: Parallel CMOS, Serial SPI Interface; Resolution(Bits): 12; Sample Rate (max)(SPS): 125M; SFDR(dB): 83; SINAD(dB): 69.9; SNR(dB): 70.1; SubFamily: High Speed ADC (>10MSPS); DatasheetVersion: SBAS310F; PackageVersion: 4147702/C, 08/2003; PackageReference: PAP64-3825X3825TP; PackageDescription: 64-Pin PowerPAD(TM) Plastic Quad Flatpack, Body 10 x 10 mm, Pitch 0.5 mm; Supplier 1: Digi-Key; Supplier Part Number 1: ADS8405IPFBTG4-ND; Digital Supply(Max)(V): 3.6; Digital Supply(Min)(V): 3; Eco-Plan: Green (RoHS & no Sb/Br); Mounting Technology: Surface Mount; Code_JEDEC: MS-026; ComponentLink1Description: Manufacturer URL; ComponentLink1URL: http://www.ti.com/; ComponentLink2Description: Datasheet; ComponentLink2URL: http://www.ti.com/general/docs/lit/getliterature.tsp?genericPartNumber=ADS5520&fileType=pdf; ComponentLink3Description: Package Specification; ComponentLink3URL: http://www.ti.com/lit/ml/mpqf071b/mpqf071b.pdf
footprint TI-PAP64-3825X3825TP_N (QFP, 64-Leads, Body 10x10mm, Pitch 0.5mm, Thermal Pad 4.15x4.15 mm, IPC Medium Density)
footprint TI-PAP64-3825X3825TP_L (QFP, 64-Leads, Body 10x10mm, Pitch 0.5mm, Thermal Pad 4.15x4.15mm, IPC High Density)
footprint TI-PAP64-3825X3825TP_M (QFP, 64-Leads, Body 10x10mm, Pitch 0.5mm, Thermal Pad 4.15x4.15mm, IPC Low Density)
part A pins: 19 INP (in) "Differential analog input (positive)", 20 INM (in) "Differential analog input (negative)", 46 D0 (LSB) (hiz) "Parallel data output", 47 D1 (hiz) "Parallel data output", 51 D2 (hiz) "Parallel data output", 52 D3 (hiz) "Parallel data output", 53 D4 (hiz) "Parallel data output", 54 D5 (hiz) "Parallel data output", 55 D6 (hiz) "Parallel data output", 56 D7 (hiz) "Parallel data output", 60 D8 (hiz) "Parallel data output", 61 D9 (hiz) "Parallel data output", 62 D10 (hiz) "Parallel data output", 63 D11 (MSB) (hiz) "Parallel data output", 64 OVR (out) "Over-range indicator bit"
part B pins: 2 SCLK (in) "Serial interface clock", 3 SDATA (in) "Serial interface data", 4 SEN (in) "Serial interface chip select", 10 CLKP (in) "Data converter differential input clock (positive)", 11 CLKM (in) "Data converter differential input clock (negative)", 17 CM (out) "Common-mode output voltage", 29 REFP "Reference voltage (positive); 1-uF capacitor in series with a 1-ohm resistor to GND", 30 REFM "Reference voltage (negative); 1-uF capacitor in series with a 1-ohm resistor to GND", 31 IREF (in) "Current set; 56-kohm resistor to GND; do not connect capacitors", 35 RESET (in) "Reset (active high), 200-kohm resistor to AVDD", 40 DFS (in) "Data format and clock out polarity select", 41 OE (in) "Output enable (active high)", 43 CLKOUT (out) "CMOS clock out in sync with data", 44 NC "Not connected", 45 NC "Not connected"
part C pins: 1 DRGND (power) "Output driver ground", 5 AVDD (power) "Analog power supply", 6 AGND (power) "Analog ground", 7 AVDD (power) "Analog power supply", 8 AGND (power) "Analog ground", 9 AVDD (power) "Analog power supply", 12 AGND (power) "Analog ground", 13 AGND (power) "Analog ground", 14 AGND (power) "Analog ground", 15 AVDD (power) "Analog power supply", 16 AGND (power) "Analog ground", 18 AGND (power) "Analog ground", 21 AGND (power) "Analog ground", 22 AVDD (power) "Analog power supply", 23 AGND (power) "Analog ground", 24 AVDD (power) "Analog power supply", 25 AGND (power) "Analog ground", 26 AVDD (power) "Analog power supply", 27 AGND (power) "Analog ground", 28 AVDD (power) "Analog power supply", 32 AGND (power) "Analog ground", 33 AVDD (power) "Analog power supply", 34 AVDD (power) "Analog power supply", 36 AGND (power) "Analog ground", 37 AVDD (power) "Analog power supply", 38 AGND (power) "Analog ground", 39 AVDD (power) "Analog power supply", 42 DRGND (power) "Output driver ground", 48 DRGND (power) "Output driver ground", 49 DRVDD (power) "Output driver power supply", 50 DRGND (power) "Output driver ground", 57 DRGND (power) "Output driver ground", 58 DRVDD (power) "Output driver power supply", 59 DRGND (power) "Output driver ground", 65 EP (power) "Connected to Analog Ground"

## ADS5520IPAPG4
designator U?
12-Bit, 125 MSPS ADC, -40 to 85 degC, 64-pin QFP (PAP64), Green (RoHS & no Sb/Br); Manufacturer: Texas Instruments; PartNumber: ADS5520IPAPG4; # Input Channels: 1; Analog Voltage AV/DD(Max)(V): 3.6; Analog Voltage AV/DD(Min)(V): 3; Architecture: Pipeline; ENOB(Bits): 11.3; INL(Max)(+/-LSB): 1.5; Interface: Parallel CMOS, Serial SPI Interface; Resolution(Bits): 12; Sample Rate (max)(SPS): 125M; SFDR(dB): 83; SINAD(dB): 69.9; SNR(dB): 70.1; SubFamily: High Speed ADC (>10MSPS); DatasheetVersion: SBAS310F; PackageVersion: 4147702/C, 08/2003; PackageReference: PAP64-3825X3825TP; PackageDescription: 64-Pin PowerPAD(TM) Plastic Quad Flatpack, Body 10 x 10 mm, Pitch 0.5 mm; Supplier 1: Digi-Key; Supplier Part Number 1: ADS1601IPFBR-ND; Digital Supply(Max)(V): 3.6; Digital Supply(Min)(V): 3; Eco-Plan: Green (RoHS & no Sb/Br); Mounting Technology: Surface Mount; Code_JEDEC: MS-026; ComponentLink1Description: Manufacturer URL; ComponentLink1URL: http://www.ti.com/; ComponentLink2Description: Datasheet; ComponentLink2URL: http://www.ti.com/general/docs/lit/getliterature.tsp?genericPartNumber=ADS5520&fileType=pdf; ComponentLink3Description: Package Specification; ComponentLink3URL: http://www.ti.com/lit/ml/mpqf071b/mpqf071b.pdf
footprint TI-PAP64-3825X3825TP_N (QFP, 64-Leads, Body 10x10mm, Pitch 0.5mm, Thermal Pad 4.15x4.15 mm, IPC Medium Density)
footprint TI-PAP64-3825X3825TP_L (QFP, 64-Leads, Body 10x10mm, Pitch 0.5mm, Thermal Pad 4.15x4.15mm, IPC High Density)
footprint TI-PAP64-3825X3825TP_M (QFP, 64-Leads, Body 10x10mm, Pitch 0.5mm, Thermal Pad 4.15x4.15mm, IPC Low Density)
part A pins: 19 INP (in) "Differential analog input (positive)", 20 INM (in) "Differential analog input (negative)", 46 D0 (LSB) (hiz) "Parallel data output", 47 D1 (hiz) "Parallel data output", 51 D2 (hiz) "Parallel data output", 52 D3 (hiz) "Parallel data output", 53 D4 (hiz) "Parallel data output", 54 D5 (hiz) "Parallel data output", 55 D6 (hiz) "Parallel data output", 56 D7 (hiz) "Parallel data output", 60 D8 (hiz) "Parallel data output", 61 D9 (hiz) "Parallel data output", 62 D10 (hiz) "Parallel data output", 63 D11 (MSB) (hiz) "Parallel data output", 64 OVR (out) "Over-range indicator bit"
part B pins: 2 SCLK (in) "Serial interface clock", 3 SDATA (in) "Serial interface data", 4 SEN (in) "Serial interface chip select", 10 CLKP (in) "Data converter differential input clock (positive)", 11 CLKM (in) "Data converter differential input clock (negative)", 17 CM (out) "Common-mode output voltage", 29 REFP "Reference voltage (positive); 1-uF capacitor in series with a 1-ohm resistor to GND", 30 REFM "Reference voltage (negative); 1-uF capacitor in series with a 1-ohm resistor to GND", 31 IREF (in) "Current set; 56-kohm resistor to GND; do not connect capacitors", 35 RESET (in) "Reset (active high), 200-kohm resistor to AVDD", 40 DFS (in) "Data format and clock out polarity select", 41 OE (in) "Output enable (active high)", 43 CLKOUT (out) "CMOS clock out in sync with data", 44 NC "Not connected", 45 NC "Not connected"
part C pins: 1 DRGND (power) "Output driver ground", 5 AVDD (power) "Analog power supply", 6 AGND (power) "Analog ground", 7 AVDD (power) "Analog power supply", 8 AGND (power) "Analog ground", 9 AVDD (power) "Analog power supply", 12 AGND (power) "Analog ground", 13 AGND (power) "Analog ground", 14 AGND (power) "Analog ground", 15 AVDD (power) "Analog power supply", 16 AGND (power) "Analog ground", 18 AGND (power) "Analog ground", 21 AGND (power) "Analog ground", 22 AVDD (power) "Analog power supply", 23 AGND (power) "Analog ground", 24 AVDD (power) "Analog power supply", 25 AGND (power) "Analog ground", 26 AVDD (power) "Analog power supply", 27 AGND (power) "Analog ground", 28 AVDD (power) "Analog power supply", 32 AGND (power) "Analog ground", 33 AVDD (power) "Analog power supply", 34 AVDD (power) "Analog power supply", 36 AGND (power) "Analog ground", 37 AVDD (power) "Analog power supply", 38 AGND (power) "Analog ground", 39 AVDD (power) "Analog power supply", 42 DRGND (power) "Output driver ground", 48 DRGND (power) "Output driver ground", 49 DRVDD (power) "Output driver power supply", 50 DRGND (power) "Output driver ground", 57 DRGND (power) "Output driver ground", 58 DRVDD (power) "Output driver power supply", 59 DRGND (power) "Output driver ground", 65 EP (power) "Connected to Analog Ground"

## ADS5520IPAPR
designator U?
12-Bit, 125 MSPS ADC, -40 to 85 degC, 64-pin QFP (PAP64), Green (RoHS & no Sb/Br); Manufacturer: Texas Instruments; PartNumber: ADS5520IPAPR; # Input Channels: 1; Analog Voltage AV/DD(Max)(V): 3.6; Analog Voltage AV/DD(Min)(V): 3; Architecture: Pipeline; ENOB(Bits): 11.3; INL(Max)(+/-LSB): 1.5; Interface: Parallel CMOS, Serial SPI Interface; Resolution(Bits): 12; Sample Rate (max)(SPS): 125M; SFDR(dB): 83; SINAD(dB): 69.9; SNR(dB): 70.1; SubFamily: High Speed ADC (>10MSPS); DatasheetVersion: SBAS310F; PackageVersion: 4147702/C, 08/2003; PackageReference: PAP64-3825X3825TP; PackageDescription: 64-Pin PowerPAD(TM) Plastic Quad Flatpack, Body 10 x 10 mm, Pitch 0.5 mm; Supplier 1: Digi-Key; Supplier Part Number 1: ADS1601IPFBRG4-ND; Digital Supply(Max)(V): 3.6; Digital Supply(Min)(V): 3; Eco-Plan: Green (RoHS & no Sb/Br); Mounting Technology: Surface Mount; Code_JEDEC: MS-026; ComponentLink1Description: Manufacturer URL; ComponentLink1URL: http://www.ti.com/; ComponentLink2Description: Datasheet; ComponentLink2URL: http://www.ti.com/general/docs/lit/getliterature.tsp?genericPartNumber=ADS5520&fileType=pdf; ComponentLink3Description: Package Specification; ComponentLink3URL: http://www.ti.com/lit/ml/mpqf071b/mpqf071b.pdf
footprint TI-PAP64-3825X3825TP_N (QFP, 64-Leads, Body 10x10mm, Pitch 0.5mm, Thermal Pad 4.15x4.15 mm, IPC Medium Density)
footprint TI-PAP64-3825X3825TP_L (QFP, 64-Leads, Body 10x10mm, Pitch 0.5mm, Thermal Pad 4.15x4.15mm, IPC High Density)
footprint TI-PAP64-3825X3825TP_M (QFP, 64-Leads, Body 10x10mm, Pitch 0.5mm, Thermal Pad 4.15x4.15mm, IPC Low Density)
part A pins: 19 INP (in) "Differential analog input (positive)", 20 INM (in) "Differential analog input (negative)", 46 D0 (LSB) (hiz) "Parallel data output", 47 D1 (hiz) "Parallel data output", 51 D2 (hiz) "Parallel data output", 52 D3 (hiz) "Parallel data output", 53 D4 (hiz) "Parallel data output", 54 D5 (hiz) "Parallel data output", 55 D6 (hiz) "Parallel data output", 56 D7 (hiz) "Parallel data output", 60 D8 (hiz) "Parallel data output", 61 D9 (hiz) "Parallel data output", 62 D10 (hiz) "Parallel data output", 63 D11 (MSB) (hiz) "Parallel data output", 64 OVR (out) "Over-range indicator bit"
part B pins: 2 SCLK (in) "Serial interface clock", 3 SDATA (in) "Serial interface data", 4 SEN (in) "Serial interface chip select", 10 CLKP (in) "Data converter differential input clock (positive)", 11 CLKM (in) "Data converter differential input clock (negative)", 17 CM (out) "Common-mode output voltage", 29 REFP "Reference voltage (positive); 1-uF capacitor in series with a 1-ohm resistor to GND", 30 REFM "Reference voltage (negative); 1-uF capacitor in series with a 1-ohm resistor to GND", 31 IREF (in) "Current set; 56-kohm resistor to GND; do not connect capacitors", 35 RESET (in) "Reset (active high), 200-kohm resistor to AVDD", 40 DFS (in) "Data format and clock out polarity select", 41 OE (in) "Output enable (active high)", 43 CLKOUT (out) "CMOS clock out in sync with data", 44 NC "Not connected", 45 NC "Not connected"
part C pins: 1 DRGND (power) "Output driver ground", 5 AVDD (power) "Analog power supply", 6 AGND (power) "Analog ground", 7 AVDD (power) "Analog power supply", 8 AGND (power) "Analog ground", 9 AVDD (power) "Analog power supply", 12 AGND (power) "Analog ground", 13 AGND (power) "Analog ground", 14 AGND (power) "Analog ground", 15 AVDD (power) "Analog power supply", 16 AGND (power) "Analog ground", 18 AGND (power) "Analog ground", 21 AGND (power) "Analog ground", 22 AVDD (power) "Analog power supply", 23 AGND (power) "Analog ground", 24 AVDD (power) "Analog power supply", 25 AGND (power) "Analog ground", 26 AVDD (power) "Analog power supply", 27 AGND (power) "Analog ground", 28 AVDD (power) "Analog power supply", 32 AGND (power) "Analog ground", 33 AVDD (power) "Analog power supply", 34 AVDD (power) "Analog power supply", 36 AGND (power) "Analog ground", 37 AVDD (power) "Analog power supply", 38 AGND (power) "Analog ground", 39 AVDD (power) "Analog power supply", 42 DRGND (power) "Output driver ground", 48 DRGND (power) "Output driver ground", 49 DRVDD (power) "Output driver power supply", 50 DRGND (power) "Output driver ground", 57 DRGND (power) "Output driver ground", 58 DRVDD (power) "Output driver power supply", 59 DRGND (power) "Output driver ground", 65 EP (power) "Connected to Analog Ground"